# Altium footprint library Microfit5pin.PcbLib: 1 footprints
Each footprint in its own frame and in the unit in brackets; x right, y up, seen from the top. Pads: shape width x height; smd on the part's side, far side on the other; paste and mask are expansions set on the pad; w line width, h text height; cw(c..) or ccw(c..) is an arc to the next point about the centre after c.
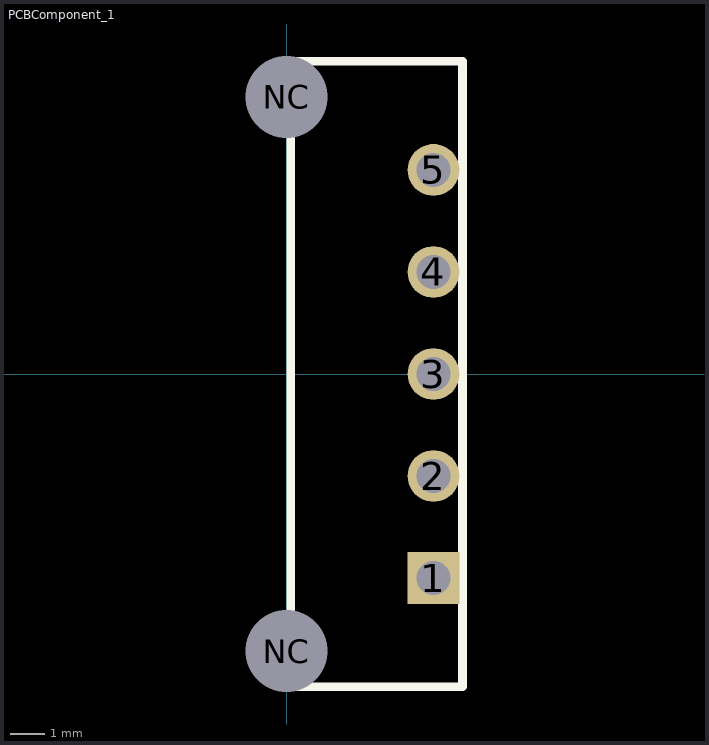
[diagram p0: the footprint, top view; thin cyan lines are the x and y axes]

## PCBComponent_1 [mm]
pads (7):
  rect 1.524x1.524 hole 1: 1(4.32,-6)
  round 1.524 hole 1: 2(4.32,-3) 3(4.32,0) 4(4.32,3) 5(4.32,6)
  round 1.524 hole 2.41: NC(0,-8.15) NC(0,8.15)
Top Overlay:
  lines w0.254: 0.127,-9.193 5.173,-9.193 5.173,9.193 0.127,9.193 0.127,-9.193
3D body "436500503.stp": height 5.68, standoff -3.11, extent -4.569,-9.32 5.331,9.32